# Altium footprint library Tactile, SPST - Panasonic, EVQQ2.PcbLib: 1 footprints
Each footprint in its own frame and in the unit in brackets; x right, y up, seen from the top. Pads: shape width x height; smd on the part's side, far side on the other; paste and mask are expansions set on the pad; w line width, h text height; cw(c..) or ccw(c..) is an arc to the next point about the centre after c.
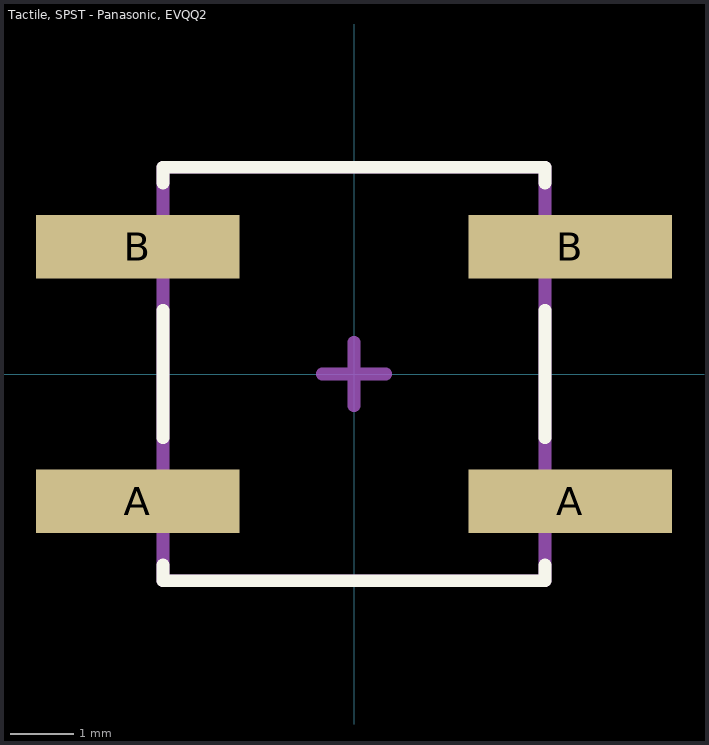
[diagram p0: the footprint, top view; thin cyan lines are the x and y axes]

## Tactile, SPST - Panasonic, EVQQ2 [mm] "Tactile, SPST - Panasonic, EVQQ2"
height 3.1
pads (4):
  rect 3.2x1 smd mask+0.05: A(-3.4,-2) A(3.4,-2) B(-3.4,2) B(3.4,2)
Top Overlay:
  lines w0.2: -3,-3 -3,-3.25 3,-3.25 3,-3 ; -3,-1 -3,1 ; -3,3 -3,3.25 3,3.25 3,3 ; 3,-1 3,1
Top Assembly:
  lines w0.2: -3,-3.25 -3,3.25 3,3.25 3,-3.25 -3,-3.25
Top Designator:
  text ".Designator" at -2.5,-2.218 h1.5
Top Component Center:
  lines w0.2: -0.5,0 0.5,0 ; 0,-0.5 0,0.5
3D body "Tactile, SPST - Panasonic, EVQQ2.step": height 3.1, standoff 0, extent -3.3,-3 3.3,3